# Altium footprint library fuse_0805.PcbLib: 1 footprints
Each footprint in its own frame and in the unit in brackets; x right, y up, seen from the top. Pads: shape width x height; smd on the part's side, far side on the other; paste and mask are expansions set on the pad; w line width, h text height; cw(c..) or ccw(c..) is an arc to the next point about the centre after c.
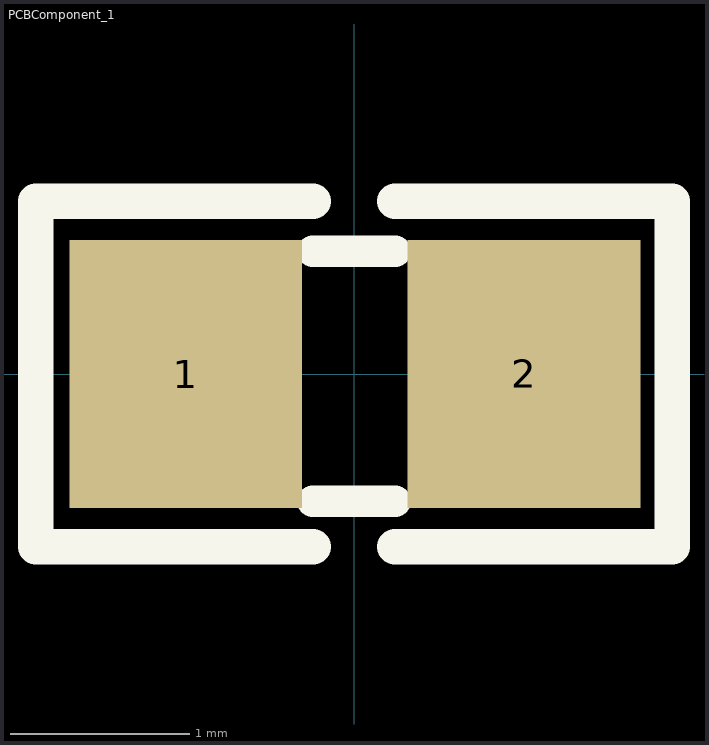
[diagram p0: the footprint, top view; thin cyan lines are the x and y axes]

## PCBComponent_1 [mm]
pads (2):
  rect 1.3x1.5 smd: 1(-0.94,0) 2(0.95,0)
Top Overlay:
  lines w0.178: -0.229,-0.711 0.229,-0.711 ; -0.229,0.686 0.229,0.686
  lines w0.2: -0.229,-0.965 -1.778,-0.965 -1.778,0.965 -0.229,0.965 ; 0.229,-0.965 1.778,-0.965 1.778,0.965 0.229,0.965
3D body "User Library-fuse0805L050WR.STEP": height 1.24, standoff 0, extent -1.105,-0.749 1.105,0.749